# Altium footprint library 1776266-4.PcbLib: 1 footprints
Each footprint in its own frame and in the unit in brackets; x right, y up, seen from the top. Pads: shape width x height; smd on the part's side, far side on the other; paste and mask are expansions set on the pad; w line width, h text height; cw(c..) or ccw(c..) is an arc to the next point about the centre after c.
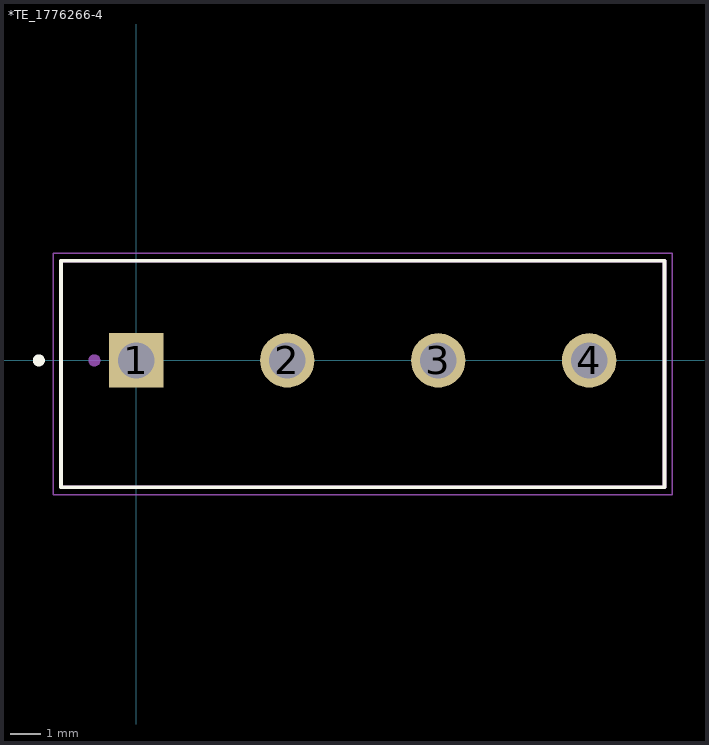
[diagram p0: the footprint, top view; thin cyan lines are the x and y axes]

## *TE_1776266-4 [mm]
pads (4):
  rect 1.8x1.8 hole 1.2: 1(0,0)
  round 1.8 hole 1.2: 2(5,0) 3(10,0) 4(15,0)
Top Overlay:
  circle w0.2: c-3.23,0 r0.1
  lines w0.127: -2.5,-4.2 17.5,-4.2 17.5,3.3 -2.5,3.3 -2.5,-4.2
Mechanical 4:
  circle w0.2: c-1.39,0 r0.1
  circle w0.2: c-1.39,0 r0.1
  lines w0.127: -2.5,-4.2 17.5,-4.2 ; -2.5,-4.2 -2.5,3.3 ; -2.5,-4.2 17.5,-4.2 ; -2.5,-4.2 -2.5,3.3 ; -2.5,3.3 17.5,3.3 ; -2.5,3.3 17.5,3.3 ; 17.5,-4.2 17.5,3.3 ; 17.5,-4.2 17.5,3.3
Mechanical 16:
  lines w0.05: -2.75,-4.45 -2.75,3.55 17.75,3.55 17.75,-4.45 -2.75,-4.45